# Altium footprint library PCB - MISC - MH_3_4.PCBLIB: 1 footprints
Each footprint in its own frame and in the unit in brackets; x right, y up, seen from the top. Pads: shape width x height; smd on the part's side, far side on the other; paste and mask are expansions set on the pad; w line width, h text height; cw(c..) or ccw(c..) is an arc to the next point about the centre after c.
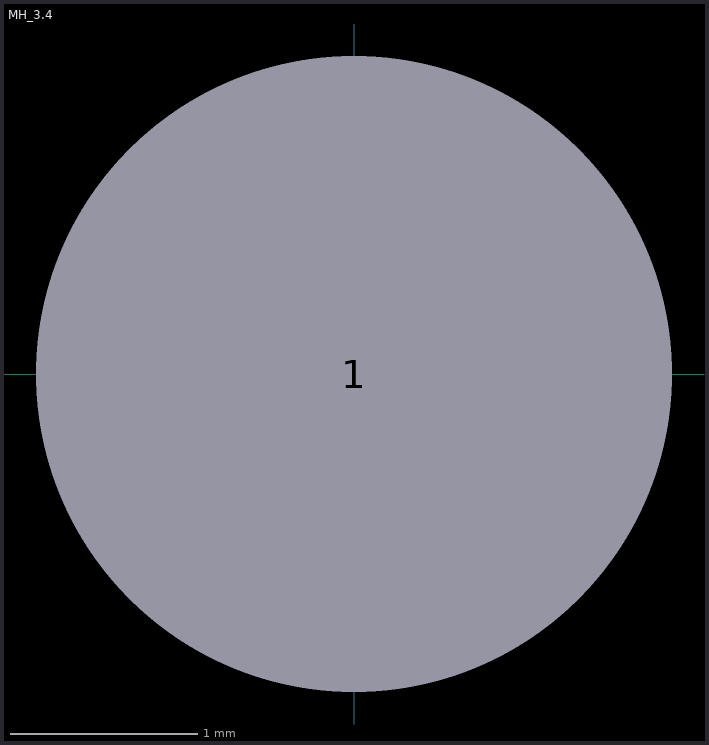
[diagram p0: the footprint, top view; thin cyan lines are the x and y axes]

## MH_3.4 [mm]
pads (1):
  round 3.1 hole 3.4 unplated: 1(0,0)
Top Designator:
  text ".Designator" at -4.285,1.806 h1
Top Value:
  text ".Comment" at 0.508,1.789 h1